# Altium footprint library WR-SMA.PcbLib: 32 footprints (part 1 of 2)
Each footprint in its own frame and in the unit in brackets; x right, y up, seen from the top. Pads: shape width x height; smd on the part's side, far side on the other; paste and mask are expansions set on the pad; w line width, h text height; cw(c..) or ccw(c..) is an arc to the next point about the centre after c.
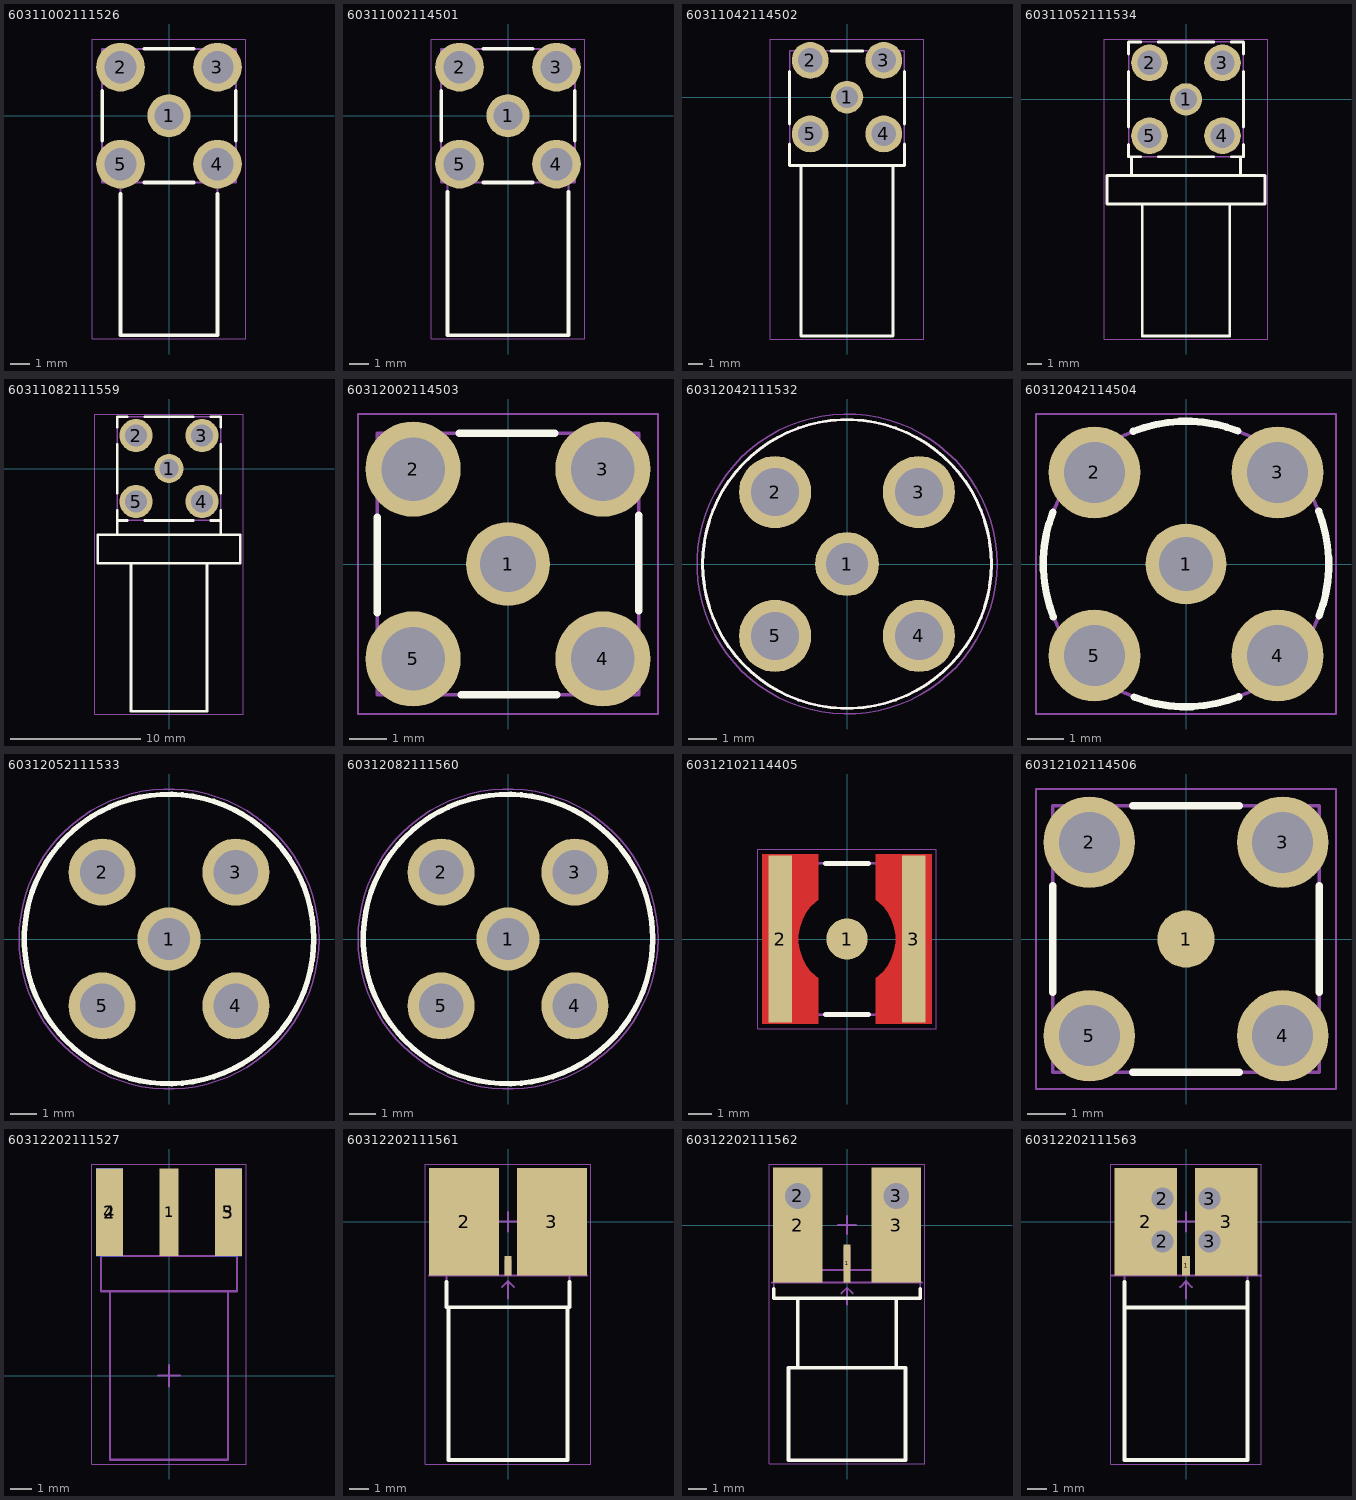
[diagram p0: the footprints below, top view; thin cyan lines are the x and y axes]

## 60311002111526 [mm] "SMA PCB THT Jack"
height 9.86
pads (5):
  round 2.25 hole 1.5: 1(0,0)
  round 2.55 hole 1.7: 2(-2.54,2.54) 3(2.54,2.54) 4(2.54,-2.54) 5(-2.54,-2.54)
Top Overlay:
  lines w0.2: -3.5,-1.3 -3.5,1.3 ; -2.54,-4.1 -2.54,-11.5 2.54,-11.5 2.54,-4.1 ; -1.3,-3.5 1.3,-3.5 ; -1.3,3.5 1.3,3.5 ; 3.5,-1.3 3.5,1.3
Top Assembly:
  lines w0.1: -2.54,-3.5 -2.54,-11.5 2.54,-11.5 2.54,-3.5 ; -3.5,-3.5 3.5,-3.5 3.5,3.5 -3.5,3.5 -3.5,-3.5
Top Designator:
  text ".Designator" at -3.647,-0.357 h1
Top Courtyard:
  lines w0.05: -4.015,-11.7 -4.015,4.015 4.015,4.015 4.015,-11.7 -4.015,-11.7
Top Component Center:
  lines w0.1: -0.5,0 0.5,0 ; 0,-0.5 0,0.5
3D body "60311002111526.stp": height 9.86, standoff -3.94, extent -3.5,-11.5 3.5,3.5

## 60311002114501 [mm] "SMA PCB THT Jack Right Angle"
height 9.66
pads (5):
  round 2.25 hole 1.5: 1(0,0)
  round 2.55 hole 1.7: 2(-2.54,2.54) 3(2.54,2.54) 4(2.54,-2.54) 5(-2.54,-2.54)
Top Overlay:
  lines w0.2: -3.5,-1.3 -3.5,1.3 ; -3.175,-4 -3.175,-11.5 3.175,-11.5 3.175,-4 ; -1.3,-3.5 1.3,-3.5 ; -1.3,3.5 1.3,3.5 ; 3.5,-1.3 3.5,1.3
Top Assembly:
  lines w0.1: -3.175,-3.5 -3.175,-11.5 3.175,-11.5 3.175,-3.5 ; -3.5,-3.5 -3.5,3.5 3.5,3.5 3.5,-3.5 -3.5,-3.5
Top Designator:
  text ".Designator" at -3.647,-0.357 h1
Top Courtyard:
  lines w0.05: -4.015,-11.7 4.015,-11.7 4.015,4.015 -4.015,4.015 -4.015,-11.7
Top Component Center:
  lines w0.1: -0.5,0 0.5,0 ; 0,-0.5 0,0.5
3D body "60311002114501.stp": height 9.66, standoff -3.94, extent -3.5,-11.502 3.5,3.5

## 60311042114502 [mm] "SMA PCB THT Jack Right Angle  Rear Mount Bulkhead"
height 10.46
pads (5):
  round 2.25 hole 1.5: 1(0,0)
  round 2.55 hole 1.7: 2(-2.54,2.54) 3(2.54,2.54) 4(2.54,-2.54) 5(-2.54,-2.54)
Top Overlay:
  lines w0.2: -3.96,-3.23 -3.96,-4.73 3.96,-4.73 3.96,-3.23 ; -3.96,-1.85 -3.96,1.77 ; -3.175,-4.73 -3.175,-16.5 3.175,-16.5 3.175,-4.73 ; -1.11,3.19 1.09,3.19 ; 3.96,-1.85 3.96,1.77
Top Assembly:
  lines w0.1: -3.175,-4.73 -3.175,-16.5 3.175,-16.5 3.175,-4.73 ; -3.96,-4.73 -3.96,3.19 3.96,3.19 3.96,-4.73 -3.96,-4.73
Top Designator:
  text ".Designator" at -3.647,-0.357 h1
Top Courtyard:
  lines w0.05: -5.3,-16.7 5.3,-16.7 5.3,4.015 -5.3,4.015 -5.3,-16.7
Top Component Center:
  lines w0.1: -0.5,0 0.5,0 ; 0,-0.5 0,0.5
3D body "60311042114502.stp": height 12.16, standoff -3.94, extent -5.1,-16.5 5.1,3.19

## 60311052111534 [mm] "SMA PCB THT Right Angle Jack IP67"
height 10.44
pads (5):
  round 2.25 hole 1.5: 1(0,0)
  round 2.55 hole 1.7: 2(-2.54,2.54) 3(2.54,2.54) 4(2.54,-2.54) 5(-2.54,-2.54)
Top Overlay:
  lines w0.2: -4,-3.15 -4,-4 -3.15,-4 ; -4,-1.93 -4,1.93 ; -4,3.15 -4,4 -3.15,4 ; -3.8,-5.3 -3.8,-4 ; -3.05,-7.3 -3.05,-16.5 3.05,-16.5 3.05,-7.3 ; -1.93,-4 1.93,-4 ; -1.93,4 1.93,4 ; 3.15,-4 4,-4 4,-3.15 ; 3.15,4 4,4 4,3.15 ; 3.8,-5.3 3.8,-4 ; 4,-1.93 4,1.93 ; -5.5,-7.3 -5.5,-5.3 5.5,-5.3 5.5,-7.3 -5.5,-7.3
Top Assembly:
  lines w0.1: -3.8,-5.3 -3.8,-4 ; -3.05,-7.3 -3.05,-16.5 3.05,-16.5 3.05,-7.3 ; 3.8,-5.3 3.8,-4 ; -5.5,-7.3 -5.5,-5.3 5.5,-5.3 5.5,-7.3 -5.5,-7.3 ; -4,-4 -4,4 4,4 4,-4 -4,-4
Top Designator:
  text ".Designator" at -3.647,-0.357 h1
Top Courtyard:
  lines w0.05: -5.7,-16.7 -5.7,4.2 5.7,4.2 5.7,-16.7 -5.7,-16.7
Top Component Center:
  lines w0.1: -0.5,0 0.5,0 ; 0,-0.5 0,0.5
3D body "60311052111534.stp": height 11.88, standoff -3.91, extent -5.5,-16.5 5.5,4

## 60311082111559 [mm] "SMA R/A Bulkhead PCB Jack"
height 10.44
pads (5):
  round 2.25 hole 1.5: 1(0,0)
  round 2.55 hole 1.7: 2(-2.54,2.54) 3(2.54,2.54) 4(2.54,-2.54) 5(-2.54,-2.54)
Top Overlay:
  lines w0.2: -4,-5.1 -4,-3.2 ; -4,-4 -3.2,-4 ; -4,-1.88 -4,1.88 ; -4,3.2 -4,4 -3.2,4 ; -2.925,-7.3 -2.925,-18.7 2.925,-18.7 2.925,-7.3 ; -1.88,-4 1.88,-4 ; -1.88,4 1.88,4 ; 3.2,-4 4,-4 ; 3.2,4 4,4 4,3.2 ; 4,-5.1 4,-3.2 ; 4,-1.88 4,1.88 ; -5.5,-7.3 5.5,-7.3 5.5,-5.1 -5.5,-5.1 -5.5,-7.3
Top Assembly:
  lines w0.1: -4,-5.1 -4,4 4,4 4,-5.1 ; -4,-4 4,-4 ; -2.925,-7.3 -2.925,-18.7 2.925,-18.7 2.925,-7.3 ; -5.5,-7.3 5.5,-7.3 5.5,-5.1 -5.5,-5.1 -5.5,-7.3
Top Designator:
  text ".Designator" at -3.647,-0.357 h1
Top 3D Body:
  lines w0.1: -4,-5.1 -4,4 4,4 4,-5.1 ; -4,-4 4,-4 ; -2.925,-7.3 -2.925,-18.7 2.925,-18.7 2.925,-7.3 ; -5.5,-7.3 5.5,-7.3 5.5,-5.1 -5.5,-5.1 -5.5,-7.3
Top Courtyard:
  lines w0.05: -5.7,-18.9 -5.7,4.2 5.7,4.2 5.7,-18.9 -5.7,-18.9
Top Component Center:
  lines w0.1: -0.5,0 0.5,0 ; 0,-0.5 0,0.5
3D body "60311082111559.stp": height 11.9, standoff -3.89, extent -5.5,-18.7 5.5,4

## 60312002114503 [mm] "SMA PCB THT Jack Straight"
height 9.56
pads (5):
  round 2.25 hole 1.5: 1(0,0)
  round 2.55 hole 1.7: 2(-2.54,2.54) 3(2.54,2.54) 4(2.54,-2.54) 5(-2.54,-2.54)
Top Overlay:
  lines w0.2: -3.5,-1.3 -3.5,1.25 ; -1.3,3.5 1.25,3.5 ; -1.25,-3.5 1.3,-3.5 ; 3.5,-1.25 3.5,1.3
Top Assembly:
  lines w0.1: -3.5,-3.5 3.5,-3.5 3.5,3.5 -3.5,3.5 -3.5,-3.5
Top Designator:
  text ".Designator" at -3.647,-0.357 h1
Top Courtyard:
  lines w0.05: -4.015,-4.015 -4.015,4.015 4.015,4.015 4.015,-4.015 -4.015,-4.015
Top Component Center:
  lines w0.1: -0.5,0 0.5,0 ; 0,-0.5 0,0.5
3D body "60312002114503.stp": height 9.56, standoff -3.94, extent -3.5,-3.5 3.5,3.5

## 60312042111532 [mm] "SMA PCB THT Jack"
height 12.65
pads (5):
  round 2.25 hole 1.5: 1(0,0)
  round 2.55 hole 1.7: 2(-2.54,2.54) 3(2.54,2.54) 4(2.54,-2.54) 5(-2.54,-2.54)
Top Overlay:
  circle w0.1: c0,0 r5.1
Top Assembly:
  circle w0.1: c0,0 r5.1
Top Designator:
  text ".Designator" at -3.647,-0.357 h1
Top Courtyard:
  circle w0.05: c0,0 r5.3
Top Component Center:
  lines w0.1: -0.5,0 0.5,0 ; 0,-0.5 0,0.5
3D body "60312042111532.stp": height 12.64, standoff -3.95, extent -7.212,-7.212 7.212,7.212

## 60312042114504 [mm] "SMA PCB THT Jack Straight Rear  Mount Bulkhead"
height 20.83
pads (5):
  round 2.25 hole 1.5: 1(0,0)
  round 2.55 hole 1.7: 2(-2.54,2.54) 3(2.54,2.54) 4(2.54,-2.54) 5(-2.54,-2.54)
Top Overlay:
  lines w0.2: -3.687,1.445 ccw(c0,0) -3.68,-1.462 ; -1.462,3.68 cw(c0,0) 1.445,3.687 ; -1.445,-3.687 ccw(c0,0) 1.462,-3.68 ; 3.68,1.462 cw(c0,0) 3.687,-1.445
Top Assembly:
  circle w0.1: c0,0 r3.96
Top Designator:
  text ".Designator" at -3.647,-0.357 h1
Top Courtyard:
  lines w0.05: -4.16,-4.16 4.16,-4.16 4.16,4.16 -4.16,4.16 -4.16,-4.16
Top Component Center:
  lines w0.1: -0.5,0 0.5,0 ; 0,-0.5 0,0.5
3D body "60312042114504(1).step": height 20.9, standoff -3.87, extent -5.6,-5.6 5.601,5.601

## 60312052111533 [mm] "SMA PCB THT Straight Jack IP67"
height 17.4
pads (5):
  round 2.4 hole 1.6: 1(0,0)
  round 2.55 hole 1.7: 2(-2.54,2.54) 3(2.54,2.54) 4(2.54,-2.54) 5(-2.54,-2.54)
Top Overlay:
  circle w0.2: c0,0 r5.5
Top Assembly:
  circle w0.1: c0,0 r5.5
Top Designator:
  text ".Designator" at -3.647,-0.357 h1
Top Courtyard:
  circle w0.05: c0,0 r5.7
Top Component Center:
  lines w0.1: -0.5,0 0.5,0 ; 0,-0.5 0,0.5
3D body "60312052111533.stp": height 17.44, standoff -3.9, extent -7.778,-7.778 7.778,7.778

## 60312082111560 [mm] "SMA Bulkhead PCB Jack"
height 17.4
pads (5):
  round 2.4 hole 1.6: 1(0,0)
  round 2.55 hole 1.7: 2(-2.54,2.54) 3(2.54,2.54) 4(2.54,-2.54) 5(-2.54,-2.54)
Top Overlay:
  circle w0.2: c0,0 r5.5
Top Assembly:
  circle w0.1: c0,0 r5.5
Top Designator:
  text ".Designator" at -3.647,-0.357 h1
Top 3D Body:
  circle w0.1: c0,0 r5.5
Top Courtyard:
  circle w0.05: c0,0 r5.7
Top Component Center:
  lines w0.1: -0.5,0 0.5,0 ; 0,-0.5 0,0.5
3D body "60312082111560.stp": height 17.49, standoff -3.85, extent -7.776,-7.767 7.767,7.776

## 60312102114405 [mm] "SMA PCB SMT Jack Straight"
height 8.84
pads (3):
  round 1.73 smd: 1(0,0)
  rect 1x7 smd: 2(-2.8,0) 3(2.8,0)
Top Layer:
  region: -3.555,-3.56 -1.205,-3.56 -1.205,-1.652 -1.331,-1.553 -1.557,-1.326 -1.745,-1.067 -1.89,-0.781 -1.989,-0.477 -2.039,-0.16 -2.039,0.16 -1.989,0.477 -1.89,0.781 -1.745,1.067 -1.557,1.326 -1.331,1.553 -1.205,1.652 -1.205,3.56 -3.555,3.56
  region: 3.555,-3.56 1.205,-3.56 1.205,-1.652 1.331,-1.553 1.557,-1.326 1.745,-1.067 1.89,-0.781 1.989,-0.477 2.039,-0.16 2.039,0.16 1.989,0.477 1.89,0.781 1.745,1.067 1.557,1.326 1.331,1.553 1.205,1.652 1.205,3.56 3.555,3.56
Top Overlay:
  lines w0.2: -0.9,-3.175 0.9,-3.175 ; -0.9,3.175 0.9,3.175
Top Assembly:
  lines w0.1: -3.175,-3.175 -3.175,3.175 3.175,3.175 3.175,-3.175 -3.175,-3.175
Top Designator:
  text ".Designator" at -3.647,-0.357 h1
Top Courtyard:
  lines w0.05: -3.755,-3.76 -3.755,3.76 3.755,3.76 3.755,-3.76 -3.755,-3.76
Top Component Center:
  lines w0.1: -0.5,0 0.5,0 ; 0,-0.5 0,0.5
3D body "60312102114405.stp": height 8.84, standoff 0, extent -3.175,-3.175 3.175,3.175

## 60312102114506 [mm] "SMA PCB SMT Jack Straight with  THT Grounding Pins"
height 9.56
pads (5):
  round 1.5 smd: 1(0,0)
  round 2.4 hole 1.6: 2(-2.54,2.54) 3(2.54,2.54) 4(2.54,-2.54) 5(-2.54,-2.54)
Top Overlay:
  lines w0.2: -3.5,-1.4 -3.5,1.4 ; -1.4,-3.5 1.4,-3.5 ; -1.4,3.5 1.4,3.5 ; 3.5,-1.4 3.5,1.4
Top Assembly:
  lines w0.1: -3.5,-3.5 3.5,-3.5 3.5,3.5 -3.5,3.5 -3.5,-3.5
Top Designator:
  text ".Designator" at -3.647,-0.357 h1
Top Courtyard:
  lines w0.05: -3.94,-3.94 -3.94,3.94 3.94,3.94 3.94,-3.94 -3.94,-3.94
Top Component Center:
  lines w0.1: -0.5,0 0.5,0 ; 0,-0.5 0,0.5
3D body "60312102114506.stp": height 9.56, standoff -3.94, extent -3.5,-3.5 3.5,3.5

## 60312202111527 [mm] "SMA PCB End Launch  Jack"
height 3.175
pads (5):
  rect 0.9x4.1 smd: 1(0,7.635)
  rect 1.25x4.1 smd: 2(-2.775,7.635) 3(2.775,7.635)
  rect 1.25x4.1 smd far side: 4(-2.775,7.635) 5(2.775,7.635)
Assembly Notes:
  lines w0.1: -3.175,5.585 3.175,5.585
  text "PCB END" at -2.2,4.335 h0.76
Top Assembly:
  lines w0.1: -2.75,3.935 -2.75,-3.935 2.75,-3.935 2.75,3.935 ; -3.175,3.935 -3.175,9.395 -2.365,9.395 -2.365,5.585 -0.38,5.585 -0.38,9.395 0.38,9.395 0.38,5.585 2.365,5.585 2.365,9.395 3.175,9.395 3.175,3.935 -3.175,3.935
Top Designator:
  text ".Designator" at -3.647,-0.357 h1
Top Courtyard:
  lines w0.05: -3.6,-4.135 -3.6,9.885 3.6,9.885 3.6,-4.135 -3.6,-4.135
Top Component Center:
  lines w0.1: -0.5,0 0.5,0 ; 0,-0.5 0,0.5
3D body "60312202111527.stp": height 3.55, standoff -2.8, extent -3.175,-3.935 3.175,9.395

## 60312202111561 [mm] "SMA Edgecard Mount Jack"
height 6.35
pads (3):
  rect 0.35x1 smd: 1(0,-2.27)
  rect 3.61x5.54 smd: 2(-2.26,0) 3(2.26,0)
Top Overlay:
  lines w0.2: -3.175,-3.1 -3.175,-4.42 3.175,-4.42 3.175,-3.1 ; -3.068,-4.42 -3.068,-12.3 3.068,-12.3 3.068,-4.42
Assembly Notes:
  lines w0.1: -4.065,-2.77 4.065,-2.77 ; -0.3,-3.37 0,-3.07 ; 0,-3.97 0,-3.07 ; 0.3,-3.37 0,-3.07
  text "PCB End" at -2.952,-5.07 h1
Top Assembly:
  lines w0.1: -3.175,-2.77 3.175,-2.77 ; -3.068,-4.42 -3.068,-12.3 3.068,-12.3 3.068,-4.42 ; -0.635,-2.77 -0.635,1.78 -3.175,1.78 -3.175,-4.42 3.175,-4.42 3.175,1.78 0.635,1.78 0.635,-2.77 ; -0.125,-2.77 -0.125,-2.01 0.125,-2.01 0.125,-2.77
Top Designator:
  text ".Designator" at -3.647,-0.357 h1
Top 3D Body:
  lines w0.1: -3.175,-2.77 3.175,-2.77 ; -3.068,-4.42 -3.068,-12.3 3.068,-12.3 3.068,-4.42 ; -0.635,-2.77 -0.635,1.78 -3.175,1.78 -3.175,-4.42 3.175,-4.42 3.175,1.78 0.635,1.78 0.635,-2.77 ; -0.125,-2.77 -0.125,-2.01 0.125,-2.01 0.125,-2.77
Top Courtyard:
  lines w0.05: -4.265,-12.5 -4.265,2.97 4.265,2.97 4.265,-12.5 -4.265,-12.5
Top Component Center:
  lines w0.1: -0.5,0 0.5,0 ; 0,-0.5 0,0.5
3D body "60312202111561.stp": height 3.29, standoff -3.06, extent -3.175,-12.3 3.175,1.78

## 60312202111562 [mm] "SAM Fixtureless Snap-in Edge Launch Jack"
height 8.73
pads (5):
  rect 0.4x2.05 smd: 1(0,-2.075)
  rect 2.69x6.2 smd: 2(-2.665,0) 3(2.665,0)
  round 2 hole 1.39: 2(-2.665,1.57) 3(2.665,1.57)
Top Overlay:
  lines w0.2: -3.96,-3.46 -3.96,-3.96 3.96,-3.96 3.96,-3.46 ; -2.66,-7.72 -2.66,-3.96 ; 2.66,-7.72 2.66,-3.96 ; -3.165,-12.72 3.165,-12.72 3.165,-7.72 -3.165,-7.72 -3.165,-12.72
Assembly Notes:
  lines w0.1: -4.065,-3.1 4.065,-3.1 ; -0.3,-3.7 0,-3.4 ; 0,-4.3 0,-3.4 ; 0.3,-3.7 0,-3.4
  text "PCB End" at -2.952,-5.4 h1
Top Assembly:
  lines w0.1: -2.66,-7.72 -2.66,-3.96 ; 2.66,-7.72 2.66,-3.96 ; -3.96,-3.96 -3.96,3.03 -1.58,3.03 -1.58,-2.44 -0.15,-2.44 -0.15,-1.17 0.15,-1.17 0.15,-2.44 1.58,-2.44 1.58,3.03 3.96,3.03 3.96,-3.96 -3.96,-3.96 ; -3.165,-12.72 -3.165,-7.72 3.165,-7.72 3.165,-12.72 -3.165,-12.72
Top Designator:
  text ".Designator" at -3.647,-0.357 h1
Top 3D Body:
  lines w0.1: -2.66,-7.72 -2.66,-3.96 ; 2.66,-7.72 2.66,-3.96 ; -3.96,-3.96 3.96,-3.96 3.96,3.03 1.58,3.03 1.58,-2.44 0.15,-2.44 0.15,-1.17 -0.15,-1.17 -0.15,-2.44 -1.58,-2.44 -1.58,3.03 -3.96,3.03 -3.96,-3.96 ; -3.165,-12.72 3.165,-12.72 3.165,-7.72 -3.165,-7.72 -3.165,-12.72
Top Courtyard:
  lines w0.05: -4.21,-12.92 -4.21,3.3 4.21,3.3 4.21,-12.92 -4.21,-12.92
Top Component Center:
  lines w0.1: -0.5,0 0.5,0 ; 0,-0.5 0,0.5
3D body "60312202111562.stp": height 4.48, standoff -4.24, extent -3.96,-12.72 3.96,3.03

## 60312202111563 [mm] "SMA END Launch Jack"
height 6.35
pads (7):
  rect 0.41x1 smd: 1(0,-2.27)
  rect 3.22x5.54 smd: 2(-2.065,0) 3(2.065,0)
  round 1.5 hole 1.14: 2(-1.22,-1.02) 2(-1.22,1.19) 3(1.22,-1.02) 3(1.22,1.19)
Top Overlay:
  lines w0.2: -3.175,-3.12 -3.175,-4.42 3.175,-4.42 3.175,-3.12 ; -3.165,-4.42 -3.165,-12.29 3.165,-12.29 3.165,-4.42
Assembly Notes:
  lines w0.1: -3.875,-2.77 3.875,-2.77 ; -0.3,-3.37 0,-3.07 ; 0,-3.97 0,-3.07 ; 0.3,-3.37 0,-3.07
  text "PCB End" at -2.952,-5.07 h1
Top Assembly:
  lines w0.1: -3.175,-2.77 3.175,-2.77 ; -3.165,-4.42 -3.165,-12.29 3.165,-12.29 3.165,-4.42 ; -0.635,-2.77 -0.635,1.78 -3.175,1.78 -3.175,-4.42 3.175,-4.42 3.175,1.78 0.635,1.78 0.635,-2.77 ; -0.125,-2.77 -0.125,-2.01 0.125,-2.01 0.125,-2.77
Top Designator:
  text ".Designator" at -3.647,-0.357 h1
Top 3D Body:
  lines w0.1: -3.175,-2.77 3.175,-2.77 ; -3.165,-4.42 -3.165,-12.29 3.165,-12.29 3.165,-4.42 ; -0.635,-2.77 -0.635,1.78 -3.175,1.78 -3.175,-4.42 3.175,-4.42 3.175,1.78 0.635,1.78 0.635,-2.77 ; -0.125,-2.77 -0.125,-2.01 0.125,-2.01 0.125,-2.77
Top Courtyard:
  lines w0.05: -3.875,-12.49 3.875,-12.49 3.875,2.97 -3.875,2.97 -3.875,-12.49
Top Component Center:
  lines w0.1: -0.5,0 0.5,0 ; 0,-0.5 0,0.5
3D body "60312202111563.stp": height 3.29, standoff -3.06, extent -3.175,-12.29 3.175,1.78